# EAGLE library part 2092-1176/200-000 (library con_wago_5.0 mm)
Serie 2092, Federleiste eCOM mit geraden Lötstiften ohne Griffplatte THR/ Series 2092, eCOM pluggable PCB connector with straight solder pins without gripping plate THR Polzahl / Pole No.: 6 Rastermaß / Pitch: 5 mm Bemessungsspannung / Rated Voltage: 320 V Nennstrom / Nominal Current: 16 A Leiterquerschnitt / Conductor Size: 0.2 - 2.5 mm² Anschlusstechnik / Connection Technology: CAGE CLAMP® S Lötstiftlänge: / Solder Pin Length: 2.4 mm Farbe / Color: lichtgrau / light gray Stand: 01.01.2013. Die jeweils aktuellen Daten zu diesem Artikel finden Sie in unserem Produktkatalog, den Sie unter www.wago.com einsehen können. As of: 01/01/2013. Please find the newest data for this article in our product catalogue, which can be viewed under www.wago.com.
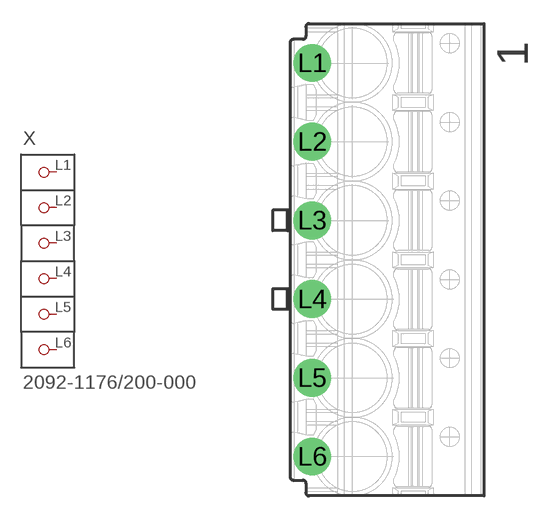
[diagram p1: symbol with the pads of P-2092-1176/200-000; footprint P-2092-1176/200-000]

Designator prefix X

## 2092-1176/200-000  [P-2092-1176/200-000]
L1  P1
L2  P2
L3  P3
L4  P4
L5  P5
L6  P6

## Footprint P-2092-1176/200-000 (pad centres in mm)
drill 1.6 pad 2 round: L1 -4.2,12.5; L2 -4.2,7.5; L3 -4.2,2.5; L4 -4.2,-2.5; L5 -4.2,-7.5; L6 -4.2,-12.5